# EAGLE library part 255-524 (library con-wago_255)
Serie 255, Klemmenleiste für Leiterplatten 2 Lötstifte/Pol / Series 255, PCB terminal strip 2 solder pins/pole Polzahl / Pole No.: 24 Rastermaß / Pitch: 7.62 mm Bemessungsspannung / Rated Voltage: 630 V Nennstrom / Nominal Current: 24 A Leiterquerschnitt / Conductor Size: 0.08 - 2.5 mm² Anschlusstechnik / Connection Technology: CAGE CLAMP® Lötstiftlänge: / Solder Pin Length: 4 mm Leitereinführung (zur Platine) / Conductor entry angle (to PCB): 90 ° Farbe / Color: grau / gray Stand: 01.01.2012. Die jeweils aktuellen Daten zu diesem Artikel finden Sie in unserem Produktkatalog, den Sie unter www.wago.com einsehen können. As of: 01/01/2012. Please find the newest data for this article in our product catalogue, which can be viewed under www.wago.com.
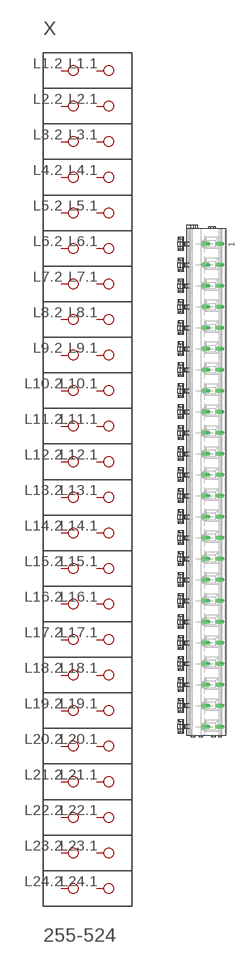
[diagram p23: symbol with the pads of P-255-524; footprint P-255-524]

Designator prefix X

## 255-524  [P-255-524]
L1.1  P1.1
L1.2  P1.2
L2.1  P2.1
L2.2  P2.2
L3.1  P3.1
L3.2  P3.2
L4.1  P4.1
L4.2  P4.2
L5.1  P5.1
L5.2  P5.2
L6.1  P6.1
L6.2  P6.2
L7.1  P7.1
L7.2  P7.2
L8.1  P8.1
L8.2  P8.2
L9.1  P9.1
L9.2  P9.2
L10.1  P10.1
L10.2  P10.2
L11.1  P11.1
L11.2  P11.2
L12.1  P12.1
L12.2  P12.2
L13.1  P13.1
L13.2  P13.2
L14.1  P14.1
L14.2  P14.2
L15.1  P15.1
L15.2  P15.2
L16.1  P16.1
L16.2  P16.2
L17.1  P17.1
L17.2  P17.2
L18.1  P18.1
L18.2  P18.2
L19.1  P19.1
L19.2  P19.2
L20.1  P20.1
L20.2  P20.2
L21.1  P21.1
L21.2  P21.2
L22.1  P22.1
L22.2  P22.2
L23.1  P23.1
L23.2  P23.2
L24.1  P24.1
L24.2  P24.2

## Footprint P-255-524 (pad centres in mm)
drill 1.1 offset: L1.1 2.359,84.75; L1.2 7.359,84.75; L2.1 2.359,77.25; L2.2 7.359,77.25; L3.1 2.359,69.75; L3.2 7.359,69.75; L4.1 2.359,62.25; L4.2 7.359,62.25; L5.1 2.359,54.75; L5.2 7.359,54.75; L6.1 2.359,47.25; L6.2 7.359,47.25; L7.1 2.359,39.75; L7.2 7.359,39.75; L8.1 2.359,32.25; L8.2 7.359,32.25; L9.1 2.359,24.75; L9.2 7.359,24.75; L10.1 2.359,17.25; L10.2 7.359,17.25; L11.1 2.359,9.75; L11.2 7.359,9.75; L12.1 2.359,2.25; L12.2 7.359,2.25; L13.1 2.359,-5.25; L13.2 7.359,-5.25; L14.1 2.359,-12.75; L14.2 7.359,-12.75; L15.1 2.359,-20.25; L15.2 7.359,-20.25; L16.1 2.359,-27.75; L16.2 7.359,-27.75; L17.1 2.359,-35.25; L17.2 7.359,-35.25; L18.1 2.359,-42.75; L18.2 7.359,-42.75; L19.1 2.359,-50.25; L19.2 7.359,-50.25; L20.1 2.359,-57.75; L20.2 7.359,-57.75; L21.1 2.359,-65.25; L21.2 7.359,-65.25; L22.1 2.359,-72.75; L22.2 7.359,-72.75; L23.1 2.359,-80.25; L23.2 7.359,-80.25; L24.1 2.359,-87.75; L24.2 7.359,-87.75